# EAGLE library part FPCHEADER (library BGM220S)
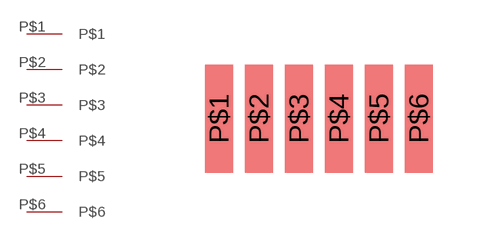
[diagram p8: symbol with the pads of FPCHEADER; footprint FPCHEADER]

Designator prefix -

## FPCHEADER  [FPCHEADER]
P$1  P$1
P$2  P$2
P$3  P$3
P$4  P$4
P$5  P$5
P$6  P$6

## Footprint FPCHEADER (pad centres in mm)
smd 0.71 x 2.7: P$1 0,0; P$2 1,0; P$3 2,0; P$4 3,0; P$5 4,0; P$6 5,0